# Altium footprint library Cap_th.PcbLib: 7 footprints
Each footprint in its own frame and in the unit in brackets; x right, y up, seen from the top. Pads: shape width x height; smd on the part's side, far side on the other; paste and mask are expansions set on the pad; w line width, h text height; cw(c..) or ccw(c..) is an arc to the next point about the centre after c.
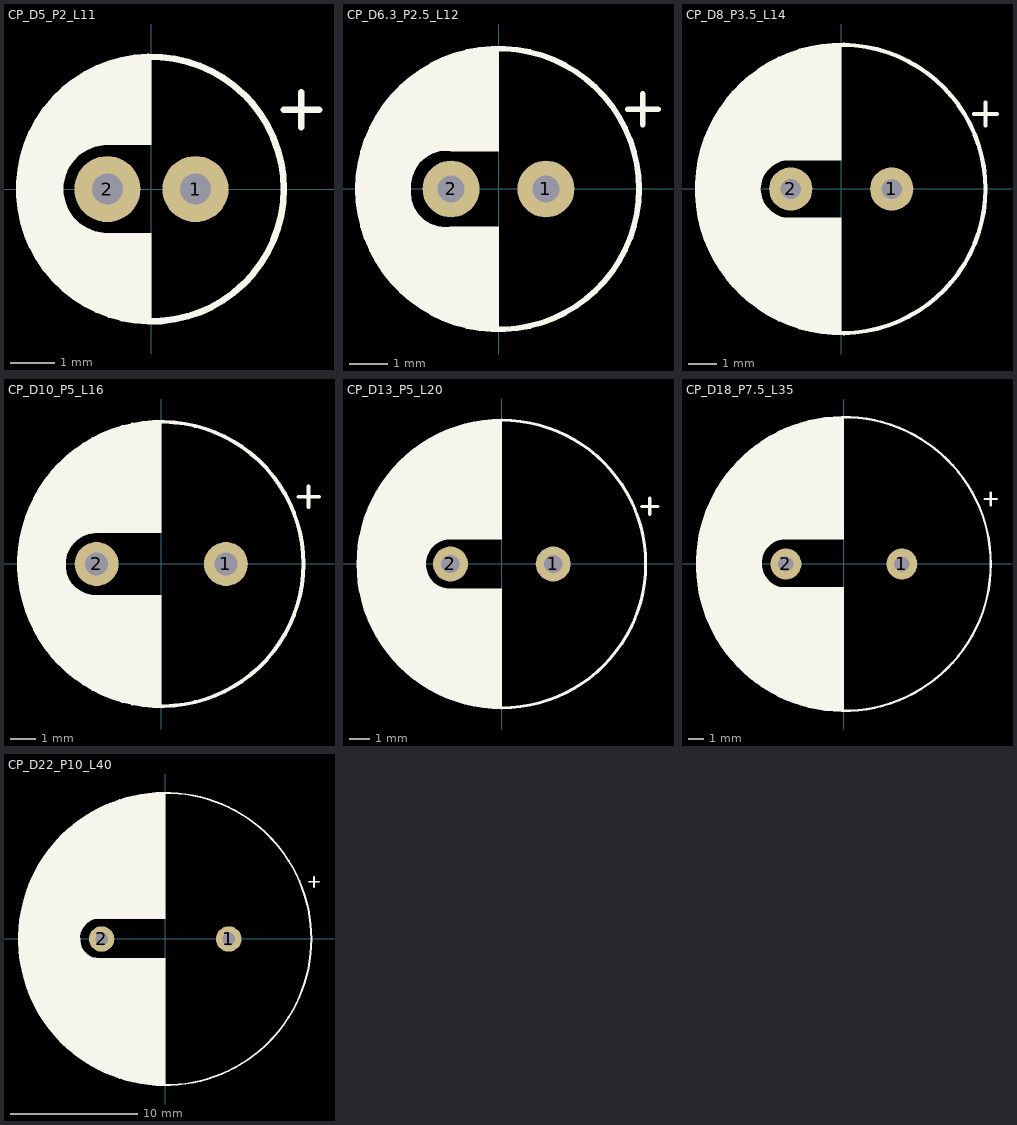
[diagram p0: the footprints below, top view; thin cyan lines are the x and y axes]

## CP_D5_P2_L11 [mm]
pads (2):
  round 1.5 hole 0.7: 1(1,0) 2(-1,0)
Top Overlay:
  circle w0.15: c0,0 r3
  region: 0,3 0,1 -1,1 -1.098,0.995 -1.29,0.957 -1.471,0.882 -1.634,0.773 -1.773,0.634 -1.882,0.471 -1.957,0.29 -1.995,0.098 -2,0 -1.995,-0.098 -1.957,-0.29 -1.882,-0.471 -1.773,-0.634 -1.634,-0.773 -1.471,-0.882 -1.29,-0.957 -1.098,-0.995 -1,-1 0,-1 0,-3 -0.2,-2.997 -0.595,-2.938 -0.98,-2.828 -1.347,-2.669 -1.69,-2.464 -2.003,-2.215 -2.281,-1.928 -2.519,-1.606 -2.713,-1.257 -2.86,-0.885 -2.958,-0.497 -3.003,-0.1 -3,0.1 -2.997,0.293 -2.94,0.676 -2.833,1.048 -2.679,1.402 -2.48,1.734 -2.24,2.037 -1.962,2.306 -1.651,2.536 -1.313,2.724 -0.953,2.866 -0.578,2.959 -0.193,3.003
  lines w0.15: 3,1.8 3.8,1.8 ; 3.4,1.4 3.4,2.2
3D body: height 11.1, standoff 0.1, extent -2.5,-2.5 2.5,2.5

## CP_D6.3_P2.5_L12 [mm]
pads (2):
  round 1.5 hole 0.7: 1(1.25,0) 2(-1.25,0)
Top Overlay:
  circle w0.15: c0,0 r3.7
  region: 0,3.7 0,1 -1.259,1 -1.36,1.008 -1.563,0.99 -1.756,0.928 -1.932,0.826 -2.081,0.688 -2.197,0.521 -2.274,0.333 -2.308,0.132 -2.308,0.031 -2.316,-0.074 -2.296,-0.283 -2.228,-0.482 -2.118,-0.66 -1.97,-0.808 -1.792,-0.919 -1.593,-0.987 -1.385,-1.008 -1.28,-1 0,-1 0,-3.7 -0.243,-3.7 -0.723,-3.637 -1.192,-3.511 -1.64,-3.326 -2.06,-3.083 -2.445,-2.788 -2.788,-2.445 -3.083,-2.06 -3.326,-1.64 -3.511,-1.192 -3.637,-0.723 -3.7,-0.243 -3.7,0 -3.7,0.243 -3.637,0.723 -3.511,1.192 -3.326,1.64 -3.083,2.06 -2.788,2.445 -2.445,2.788 -2.06,3.083 -1.64,3.326 -1.192,3.511 -0.723,3.637 -0.243,3.7
  lines w0.15: 3.4,2.1 4.2,2.1 ; 3.8,1.7 3.8,2.5
3D body: height 12.1, standoff 0.1, extent -3.15,-3.15 3.15,3.15

## CP_D8_P3.5_L14 [mm]
pads (2):
  round 1.5 hole 0.7: 1(1.75,0) 2(-1.75,0)
Top Overlay:
  circle w0.15: c0,0 r5
  region: 0,5 0,1 -1.8,1 -1.898,0.995 -2.09,0.957 -2.271,0.882 -2.434,0.773 -2.573,0.634 -2.682,0.471 -2.757,0.29 -2.795,0.098 -2.8,0 -2.795,-0.098 -2.757,-0.29 -2.682,-0.471 -2.573,-0.634 -2.434,-0.773 -2.271,-0.882 -2.09,-0.957 -1.898,-0.995 -1.8,-1 0,-1 0,-5 -0.328,-5 -0.978,-4.914 -1.611,-4.745 -2.216,-4.494 -2.784,-4.166 -3.304,-3.767 -3.767,-3.304 -4.166,-2.784 -4.494,-2.216 -4.745,-1.611 -4.914,-0.978 -5,-0.328 -5,0 -5,0.328 -4.914,0.978 -4.745,1.611 -4.494,2.216 -4.166,2.784 -3.767,3.304 -3.304,3.767 -2.784,4.166 -2.216,4.494 -1.611,4.745 -0.978,4.914 -0.328,5
  lines w0.15: 4.6,2.6 5.4,2.6 ; 5,2.2 5,3
3D body: height 14.1, standoff 0.1, extent -4,-4 4,4

## CP_D10_P5_L16 [mm]
pads (2):
  round 1.7 hole 0.9: 1(2.5,0) 2(-2.5,0)
Top Overlay:
  circle w0.15: c0,0 r5.5
  region: 0,5.5 0,1.2 -2.5,1.2 -2.618,1.194 -2.848,1.148 -3.066,1.058 -3.261,0.928 -3.428,0.761 -3.558,0.566 -3.648,0.348 -3.694,0.118 -3.7,0 -3.699,-0.113 -3.665,-0.336 -3.588,-0.548 -3.471,-0.741 -3.318,-0.907 -3.136,-1.041 -2.932,-1.136 -2.712,-1.19 -2.6,-1.2 0,-1.2 0,-5.5 -0.36,-5.5 -1.075,-5.406 -1.772,-5.219 -2.438,-4.943 -3.062,-4.583 -3.634,-4.144 -4.144,-3.634 -4.583,-3.062 -4.943,-2.438 -5.219,-1.772 -5.406,-1.075 -5.5,-0.36 -5.5,0 -5.5,0.36 -5.406,1.075 -5.219,1.772 -4.943,2.438 -4.583,3.062 -4.144,3.634 -3.634,4.144 -3.062,4.583 -2.438,4.943 -1.772,5.219 -1.075,5.406 -0.361,5.5
  lines w0.15: 5.3,2.6 6.1,2.6 ; 5.7,2.2 5.7,3
3D body: height 16.1, standoff 0.1, extent -5,-5 5,5

## CP_D13_P5_L20 [mm]
pads (2):
  round 1.7 hole 0.9: 1(2.5,0) 2(-2.5,0)
Top Overlay:
  circle w0.15: c0,0 r7
  region: 0,7 0,1.2 -2.5,1.2 -2.618,1.194 -2.848,1.148 -3.066,1.058 -3.261,0.928 -3.428,0.761 -3.558,0.566 -3.648,0.348 -3.694,0.118 -3.7,0 -3.699,-0.113 -3.665,-0.336 -3.588,-0.548 -3.471,-0.741 -3.318,-0.907 -3.136,-1.041 -2.932,-1.136 -2.712,-1.19 -2.6,-1.2 0,-1.2 0,-7 -0.344,-7 -1.028,-6.933 -1.703,-6.798 -2.361,-6.599 -2.997,-6.336 -3.603,-6.011 -4.175,-5.629 -4.707,-5.193 -5.193,-4.707 -5.629,-4.175 -6.011,-3.603 -6.336,-2.997 -6.599,-2.361 -6.798,-1.703 -6.933,-1.028 -7,-0.344 -7,0 -7,0.344 -6.933,1.028 -6.798,1.703 -6.599,2.361 -6.336,2.997 -6.011,3.603 -5.629,4.175 -5.193,4.707 -4.707,5.193 -4.175,5.629 -3.603,6.011 -2.996,6.336 -2.361,6.599 -1.703,6.798 -1.028,6.933 -0.344,7
  lines w0.15: 6.8,2.8 7.6,2.8 ; 7.2,2.4 7.2,3.2
3D body: height 20.1, standoff 0.1, extent -6.5,-6.5 6.5,6.5

## CP_D18_P7.5_L35 [mm]
pads (2):
  round 2 hole 1: 1(3.75,0) 2(-3.75,0)
Top Overlay:
  circle w0.15: c0,0 r9.5
  region: 0,9.5 0,1.6 -3.9,1.6 -4.047,1.583 -4.331,1.506 -4.595,1.376 -4.829,1.196 -5.023,0.974 -5.17,0.719 -5.265,0.44 -5.303,0.148 -5.3,0 -5.298,-0.142 -5.252,-0.423 -5.152,-0.689 -5.003,-0.931 -4.809,-1.139 -4.578,-1.305 -4.319,-1.423 -4.042,-1.488 -3.9,-1.5 0,-1.5 0,-9.5 -0.467,-9.5 -1.396,-9.409 -2.311,-9.226 -3.204,-8.956 -4.067,-8.598 -4.89,-8.158 -5.666,-7.64 -6.388,-7.048 -7.048,-6.388 -7.64,-5.666 -8.158,-4.89 -8.598,-4.067 -8.956,-3.204 -9.226,-2.311 -9.409,-1.396 -9.5,-0.467 -9.5,0 -9.5,0.467 -9.409,1.396 -9.226,2.311 -8.956,3.204 -8.598,4.067 -8.158,4.89 -7.64,5.666 -7.048,6.387 -6.388,7.047 -5.666,7.64 -4.89,8.158 -4.067,8.598 -3.204,8.955 -2.311,9.226 -1.396,9.408 -0.467,9.5
  lines w0.15: 9.1,4.2 9.9,4.2 ; 9.5,3.8 9.5,4.6
3D body: height 35.1, standoff 0.1, extent -9,-9 9,9

## CP_D22_P10_L40 [mm]
pads (2):
  round 2 hole 1: 1(5,0) 2(-5,0)
Top Overlay:
  circle w0.15: c0,0 r11.5
  region: 0,11.5 0,1.6 -5.3,1.6 -5.447,1.583 -5.731,1.507 -5.995,1.376 -6.229,1.196 -6.423,0.974 -6.57,0.719 -6.665,0.44 -6.703,0.148 -6.7,0 -6.698,-0.142 -6.652,-0.423 -6.552,-0.689 -6.403,-0.931 -6.209,-1.139 -5.978,-1.305 -5.719,-1.423 -5.442,-1.488 -5.3,-1.5 0,-1.5 0,-11.5 -0.452,-11.5 -1.353,-11.429 -2.245,-11.288 -3.124,-11.077 -3.984,-10.798 -4.818,-10.452 -5.624,-10.041 -6.394,-9.569 -7.125,-9.038 -7.812,-8.451 -8.451,-7.812 -9.038,-7.125 -9.569,-6.394 -10.042,-5.623 -10.452,-4.818 -10.798,-3.983 -11.077,-3.124 -11.288,-2.245 -11.429,-1.353 -11.5,-0.452 -11.5,0 -11.5,0.452 -11.429,1.353 -11.288,2.245 -11.077,3.124 -10.798,3.983 -10.452,4.818 -10.041,5.623 -9.569,6.394 -9.038,7.125 -8.451,7.812 -7.812,8.451 -7.125,9.038 -6.394,9.569 -5.624,10.041 -4.818,10.452 -3.983,10.798 -3.124,11.077 -2.245,11.288 -1.353,11.429 -0.452,11.5
  lines w0.15: 11.3,4.5 12.1,4.5 ; 11.7,4.1 11.7,4.9
3D body: height 40.1, standoff 0.1, extent -11,-11 11,11